# EAGLE library part MAX856 (library icnh3)
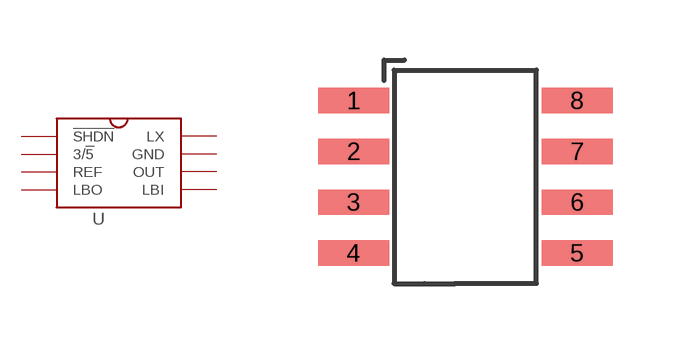
[diagram p19: symbol with the pads of SO8; footprint SO8]

Designator prefix U

## MAX856  [SO8]
1  !SHDN
2  3/!5!
3  REF
4  LBO
5  LBI
6  OUT
7  GND
8  LX

## Footprint SO8 (pad centres in mm)
smd 1.778 x 0.635: 1 -2.54,2.54; 2 -2.54,1.27; 3 -2.54,0; 4 -2.54,-1.27; 5 3.048,-1.27; 6 3.048,0; 7 3.048,1.27; 8 3.048,2.54